# EAGLE library part APA102 (library pimoroni-optoelectronics)
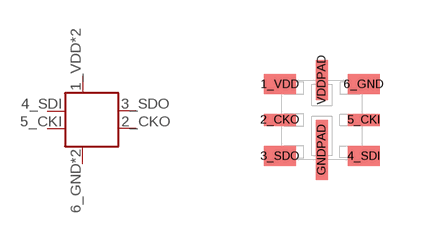
[diagram p6: symbol with the pads of APA102-2020; footprint APA102-2020]

Designator prefix -

## APA102  [APA102-2020]
1_VDD  VCC  pwr
2_CKO  CKO  out
3_SDO  SDO  out
4_SDI  SDI  in
5_CKI  CKI  in
6_GND  GND  pwr
GNDPAD  GND  pwr
VDDPAD  VCC  pwr

## Footprint APA102-2020 (pad centres in mm)
smd 0.8 x 0.5: 1_VDD -1.05,0.9; 3_SDO -1.05,-0.9; 4_SDI 1.05,-0.9; 6_GND 1.05,0.9
smd 0.8 x 0.3: 2_CKO -1.05,0; 5_CKI 1.05,0
smd 0.3 x 1.5: GNDPAD 0,-0.75
smd 0.3 x 1: VDDPAD 0,1